# Altium schematic symbol library Transistor_Components.SchLib: 8 symbols
Pins are listed as number, name and electrical type; pins without a type are passive.

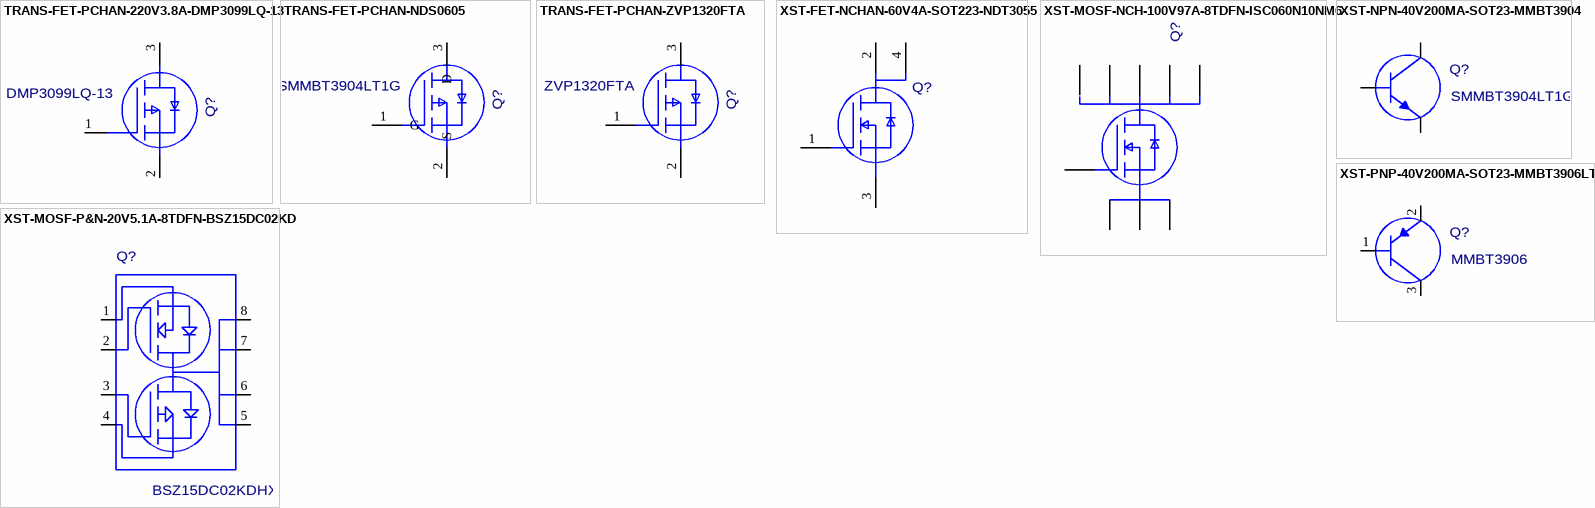
[diagram p0: symbols TRANS-FET-PCHAN-220V3.8A-DMP3099LQ-13 to XST-PNP-40V200MA-SOT23-MMBT3906LT1G]

## TRANS-FET-PCHAN-220V3.8A-DMP3099LQ-13
designator Q?  value DMP3099LQ-13  (hidden comment: TRANS-FET-PCHAN-220V3.8A-DMP3099LQ-13)
P-CH MOSFET -220V 3.8A, SOT23-3; MFG: Diodes Inc; Voltage: 220V; MFGPN: DMP3099LQ-13; Current: 3.8A
footprint SOT-23
pins: 1 G, 2 S, 3 D

## TRANS-FET-PCHAN-NDS0605
designator Q?  value SMMBT3904LT1G  (hidden comment: TRANS-FET-PCHAN-NDS0605)
P-CH MOSFET -60V 180mA, SOT23; MFG: Onsemi; QPN: 124-001430-3100; MFGPN: SMMBT3904LT1G; Voltage: -60V
footprint SOT-23
pins: 1 G, 2 S, 3 D

## TRANS-FET-PCHAN-ZVP1320FTA
designator Q?  value ZVP1320FTA  (hidden comment: TRANS-FET-PCHAN-ZVP1320FTA)
P-CH MOSFET -200V 35mA, SOT23; MFG: Diodes Inc; Voltage: 200V; MFGPN: ZVP1320FTA
footprint SOT-23
pins: 1 G, 2 S, 3 D

## XST-FET-NCHAN-60V4A-SOT223-NDT3055
designator Q?  (value not drawn)
N-Channel FET, 60V, 4A, 0.1 Ohm  Rds(on), SOT-223; MFG: Fairchild Semi; QPN: 124-001534-3055; Checked: JER 10-19-09; Temp: 150C; MFGPN: NDT3055; Value: NDT3055
footprint SOT-223
pins: 1, 2, 3, 4

## XST-MOSF-NCH-100V97A-8TDFN-ISC060N10NM6
designator Q?  (value not drawn)
Transistor, MOSFET, N-CH, 100V, 97A (Tc), 8-Power TDFN; MFG: Infineon; MFGPN: ISC060N10NM6ATMA1; QPN: 124-102848-3060; Value: ISC060N10NM6ATMA1, OptiMOS 6; Notes: RDS ON:0.006 Ohms @ 25A / 10V; Qg 33nC @ 10V; Temp: 175C; Voltage: 100V; Current: 97A
footprint PG-TDSON-8
pins: 1 S, 2 S, 3 S, 4 G, 5 D, 6 D, 7 D, 8 D, 9 D

## XST-MOSF-P&N-20V5.1A-8TDFN-BSZ15DC02KD
designator Q?  value BSZ15DC02KDHXTMA1  (hidden comment: XST-MOSF-P&N-20V5.1A-8TDFN-BSZ15DC02KD)
Transistor, MOSFET, Complementary, 20V, 5.1A, 8-Power TDFN; Current: 31A; MFG: Infineon; Notes: P and N Channel; QPN: 124-102819-3215; Temp: 175C; MFGPN: BSZ15DC02KDHXTMA1; Voltage: 20V
footprint TDFN-8-EP
pins: 1 S1, 2 G1, 3 G2, 4 S2, 5 D2, 6 D2, 7 D1, 8 D1

## XST-NPN-40V200MA-SOT23-MMBT3904
designator Q?  value SMMBT3904LT1G  (hidden comment: XST-NPN-40V200MA-SOT23-MMBT3904)
Transistor, NPN, 40V, 200mA, SOT-23; Checked: JER 2-22-13; MFG: onsemi; QPN: 124-001420-0004; Temp: 150C; MFGPN: SMMBT3904LT1G
footprint SOT-23
pins: 1, 2, 3

## XST-PNP-40V200MA-SOT23-MMBT3906LT1G
designator Q?  value MMBT3906  (hidden comment: XST-PNP-40V200MA-SOT23-MMBT3906LT1G)
Transistor, PNP, 40V, 200mA, SOT-23; MFG: onsemi; Temp: 150C; MFGPN: MMBT3906LT1G
footprint SOT-23
pins: 1 B, 2 E, 3 C